# Altium footprint library MLACHC_C.PCBLIB: 52 footprints (part 2 of 4)
Each footprint in its own frame and in the unit in brackets; x right, y up, seen from the top. Pads: shape width x height; smd on the part's side, far side on the other; paste and mask are expansions set on the pad; w line width, h text height; cw(c..) or ccw(c..) is an arc to the next point about the centre after c.
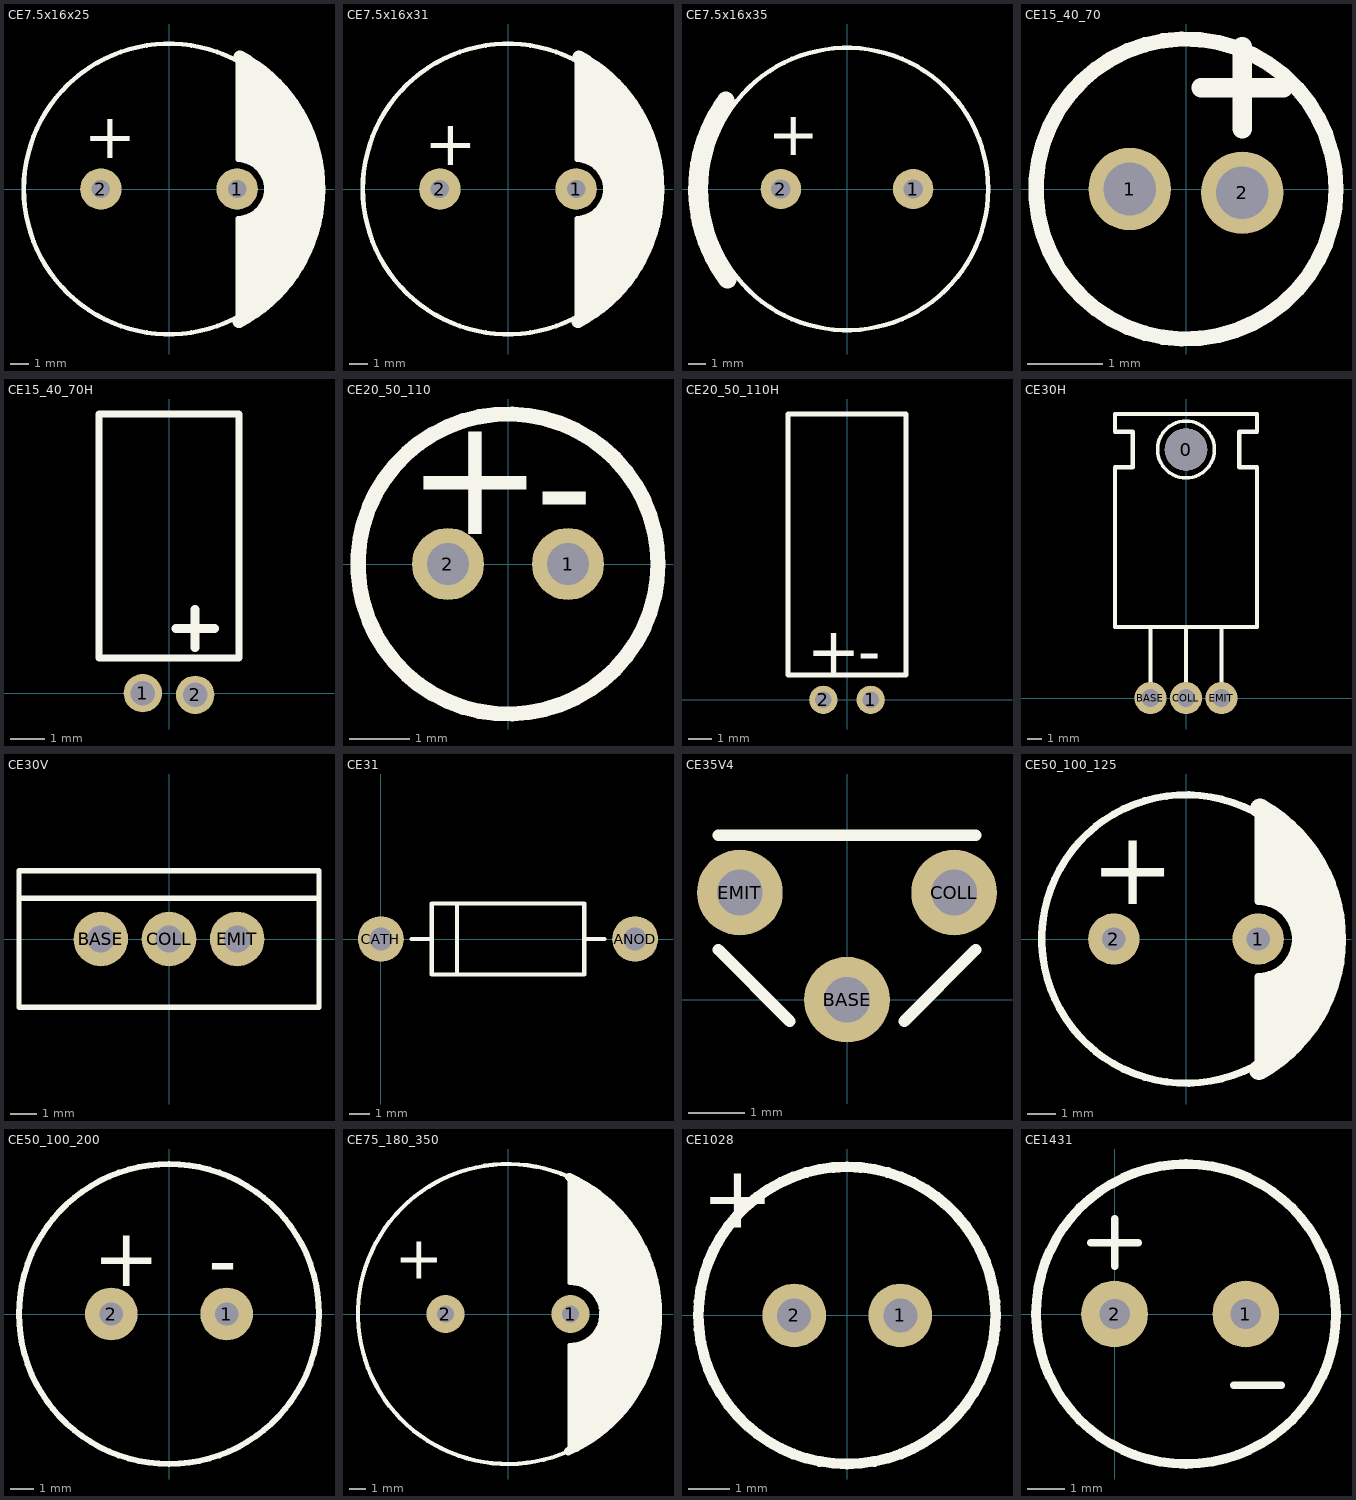
[diagram p1: the footprints below, top view; thin cyan lines are the x and y axes]

## CE7.5x16x25 [mil]
pads (2):
  round 90 hole 40: 1(147.64,0) 2(-147.64,0)
TopOverlay:
  circle w10: c0,0 r314.96
  lines w9.84: 149.61,-283.46 149.61,-62.99 ccw(c147.64,0) 149.61,62.99 149.61,275.59
  lines w19.68: 161.42,-271.65 161.42,-70.87 ; 161.42,70.87 161.42,271.65 ; 177.17,-267.72 177.17,-66.93 ; 177.17,66.93 177.17,267.72 ; 185.04,-66.93 232.28,0 185.04,66.93 ; 192.91,-255.91 192.91,-55.12 ; 192.91,55.12 192.91,255.91 ; 208.66,-244.09 208.66,-43.31 ; 208.66,43.31 208.66,244.09 ; 216.54,-62.99 216.54,47.24 ; 224.41,-228.35 224.41,228.35 ; 240.16,-212.6 240.16,216.54 ; 255.91,-188.98 255.91,196.85 ; 271.65,-173.23 271.65,173.23 ; 287.4,-141.73 287.4,145.67 ; 303.15,-90.55 303.15,106.3
  lines w27.56: 151.8,-287.63 ccw(c0,0) 153.47,286.74
  text "+" at -185.04,66.93 h100
3D body: height 984.25, standoff 0, extent -314.96,-314.34 312.48,314.34

## CE7.5x16x31 [mil]
pads (2):
  round 90 hole 40: 1(147.64,0) 2(-147.64,0)
TopOverlay:
  circle w10: c0,0 r314.96
  lines w9.84: 149.61,-283.46 149.61,-62.99 ccw(c147.64,0) 149.61,62.99 149.61,275.59
  lines w19.68: 161.42,-271.65 161.42,-70.87 ; 161.42,70.87 161.42,271.65 ; 177.17,-267.72 177.17,-66.93 ; 177.17,66.93 177.17,267.72 ; 185.04,-66.93 232.28,0 185.04,66.93 ; 192.91,-255.91 192.91,-55.12 ; 192.91,55.12 192.91,255.91 ; 208.66,-244.09 208.66,-43.31 ; 208.66,43.31 208.66,244.09 ; 216.54,-62.99 216.54,47.24 ; 224.41,-228.35 224.41,228.35 ; 240.16,-212.6 240.16,216.54 ; 255.91,-188.98 255.91,196.85 ; 271.65,-173.23 271.65,173.23 ; 287.4,-141.73 287.4,145.67 ; 303.15,-90.55 303.15,106.3
  lines w27.56: 151.8,-287.63 ccw(c0,0) 153.47,286.74
  text "+" at -181.1,51.18 h100
3D body: height 1220.47, standoff 0, extent -314.96,-314.34 312.48,314.34

## CE7.5x16x35 [mil]
pads (2):
  round 90 hole 43.31: 1(147.64,0) 2(-147.64,0)
TopOverlay:
  circle w10: c0,0 r314.96
  lines w39.37: -270.11,197.55 ccw(c0,0) -266.74,-202.08
  text "+" at -177.17,74.8 h100
3D body: height 1377.95, standoff 0, extent -314.96,-314.34 312.48,314.34

## CE15_40_70 [mm]
pads (2):
  round 1.1 hole 0.7: 1(-0.75,0) 2(0.75,-0.05)
TopOverlay:
  circle w0.203: c0,0 r2
  lines w0.254: 0.2,1.35 0.75,1.35 ; 0.75,0.8 0.75,1.35 ; 0.75,1.9 0.75,1.35 ; 1.3,1.35 0.75,1.35
3D body: height 7, standoff 0, extent -1.984,-1.996 2,1.996
3D body: height 0, standoff -2, extent -0.999,-0.25 -0.501,0.249
3D body: height 0, standoff -2, extent 0.501,-0.3 0.999,0.199

## CE15_40_70H [mm]
pads (2):
  round 1.1 hole 0.7: 1(-0.75,0) 2(0.75,-0.05)
TopOverlay:
  lines w0.2: -2,1 -2,8 2,8 2,1 -2,1
  lines w0.254: 0.2,1.85 0.75,1.85 ; 0.75,1.3 0.75,1.85 ; 0.75,2.4 0.75,1.85 ; 1.3,1.85 0.75,1.85
3D body: height 4, standoff 0, extent -1.992,1 1.992,8
3D body: height 0, standoff -2, extent -0.999,-0.25 -0.501,0.249
3D body: height 0, standoff -2, extent 0.501,-0.3 0.999,0.199
3D body: height 2.25, standoff 1.75, extent 0.501,-0.2 0.999,4.3
3D body: height 2.25, standoff -2, extent 0.501,-0.25 0.999,0.249
3D body: height 2.25, standoff -2, extent -0.999,-0.25 -0.501,0.249
3D body: height 2.25, standoff 1.75, extent -0.999,-0.2 -0.501,4.3

## CE20_50_110 [mm]
pads (2):
  round 1.2 hole 0.7: 1(1,0) 2(-1,0)
TopOverlay:
  circle w0.254: c0,0 r2.5
  text "-" at 0.45,0.35 h2
  text "+" at -1.7,0.5 h2
3D body: height 0, standoff -2, extent 0.751,-0.25 1.249,0.249
3D body: height 0, standoff -2, extent -1.249,-0.25 -0.751,0.249
3D body: height 11, standoff 0, extent -2.49,-2.49 2.49,2.5

## CE20_50_110H [mm]
pads (2):
  round 1.2 hole 0.7: 1(1,0) 2(-1,0)
TopOverlay:
  lines w0.2: -2.5,1.05 2.5,1.05 2.5,12.1 -2.5,12.1 -2.5,1.05
  text "+" at -1.7,1.1 h2
  text "-" at 0.45,1.1 h2
3D body: height 2.5, standoff 2, extent -1.249,-0.2 -0.751,2.8
3D body: height 2.5, standoff 2, extent 0.751,-0.2 1.249,4.3
3D body: height 2.5, standoff -2, extent -1.249,-0.25 -0.751,0.249
3D body: height 5, standoff 0, extent -2.49,1.05 2.49,12.05
3D body: height 2.5, standoff -2, extent 0.751,-0.25 1.249,0.249

## CE30H [mil]
pads (4):
  round 120 hole 118: 0(0,700)
  round 90 hole 50: BASE(-100,0) COLL(0,0) EMIT(100,0)
TopOverlay:
  circle w10: c0,700 r80
  lines w12: -100,0 -100,200 ; 0,0 0,200 ; 100,0 100,200 ; -200,200 200,200 200,650 150,650 150,750 200,750 200,800 -200,800 -200,750 -150,750 -150,650 -200,650 -200,200

## CE30V [mil]
pads (3):
  round 80 hole 40: BASE(-100,0) COLL(0,0) EMIT(100,0)
TopOverlay:
  lines w8: -220,60 220,60 ; -220,-100 -220,100 220,100 220,-100 -220,-100

## CE31 [mil]
pads (2):
  round 90 hole 45: ANOD(500,0) CATH(0,0)
TopOverlay:
  lines w8: 60,0 100,0 ; 150,-70 150,70 ; 400,0 440,0 ; 100,-70 100,70 400,70 400,-70 100,-70

## CE35V4 [mil]
pads (3):
  round 60 hole 32: BASE(0,0) COLL(75,75) EMIT(-75,75)
TopOverlay:
  lines w8: -90,35 -40,-15 ; -90,115 90,115 ; 40,-15 90,35
3D body: height 196.85, standoff 0, extent -11.61,-12.01 12.01,11.61
3D body: height 196.85, standoff 0, extent 63.39,62.99 87.01,86.61
3D body: height 196.85, standoff 0, extent -86.61,62.99 -62.99,86.61
3D body: height 314.96, standoff 118.11, extent -90.55,-15.75 90.55,114.17

## CE50_100_125 [mil]
pads (2):
  round 70 hole 32: 1(98.43,0) 2(-98.43,0)
TopOverlay:
  circle w10: c0,0 r196.85
  lines w9.84: 98.43,-169.29 98.43,-51.18 ccw(c98.43,0) 98.43,51.18 98.43,169.29
  lines w19.68: 110.24,-165.35 110.24,-55.12 ; 110.24,55.12 110.24,165.35 ; 125.98,-165.35 125.98,-51.18 ; 125.98,51.18 125.98,165.35 ; 141.73,-153.54 141.73,-39.37 ; 141.73,39.37 141.73,153.54 ; 153.54,-137.8 153.54,-11.81 ; 153.54,11.81 153.54,137.8 ; 157.48,0 185.04,0 ; 169.29,-110.24 169.29,122.05 ; 185.04,-86.61 185.04,86.61
  lines w27.56: 99.42,-178.96 ccw(c0,0) 101.14,178
  text "+" at -129.92,47.24 h100
3D body: height 492.13, standoff 0, extent -195.3,-196.46 196.85,196.46

## CE50_100_200 [mil]
pads (2):
  round 90 hole 40: 1(98.43,0) 2(-98.43,0)
TopOverlay:
  circle w10: c0,0 r255.91
  text "+" at -129.92,47.24 h100
  text "-" at 66.93,43.31 h100
3D body: height 787.4, standoff 0, extent -254.9,-255.91 254.9,254.9

## CE75_180_350 [mil]
pads (2):
  round 90 hole 40: 1(147.64,0) 2(-147.64,0)
TopOverlay:
  lines w9.84: 145.49,-318.72 145.49,-72.91 ccw(c147.64,0) 145.9,72.92 145.9,318.67
  lines w10: 142.44,-324.44 cw(c0,0) 144.27,323.63
  lines w19.68: 142.44,-324.44 ccw(c0,0) 144.27,323.63 ; 157.48,-307.09 157.48,-78.74 ; 157.48,78.74 157.48,307.09 ; 173.23,-299.21 173.23,-74.8 ; 173.23,74.8 173.23,299.21 ; 188.98,-291.34 188.98,-66.93 ; 188.98,66.93 188.98,291.34 ; 204.72,-279.53 204.72,-55.12 ; 204.72,55.12 204.72,279.53 ; 216.54,-267.72 216.54,-35.43 ; 216.54,35.43 216.54,267.72 ; 228.35,-259.84 228.35,263.78 ; 240.16,-251.97 240.16,251.97 ; 251.97,-236.22 251.97,240.16 ; 267.72,-224.41 267.72,224.41 ; 283.46,-208.66 283.46,196.85 ; 299.21,-185.04 299.21,177.17 ; 314.96,-149.61 314.96,157.48 ; 330.71,-125.98 330.71,122.05 ; 346.46,-59.06 346.46,66.93
  text "+" at -267.72,82.68 h100
3D body: height 1377.95, standoff 0, extent -352.93,-354.33 352.93,352.93
3D body: height 0, standoff -118.11, extent 132.01,-15.75 163.39,15.69
3D body: height 0, standoff -118.11, extent -163.26,-15.75 -131.89,15.69

## CE1028 [mil]
pads (2):
  round 60 hole 32: 1(50,0) 2(-50,0)
TopOverlay:
  circle w10: c-0.24,0 r140
  text "+" at -137.8,82.68 h60
3D body: height 590.55, standoff 0, extent -137.8,-137.52 136.71,137.52

## CE1431 [mil]
pads (2):
  round 70 hole 32: 1(137.8,0) 2(0,0)
TopOverlay:
  circle w10: c75,0 r157.48
  lines w8: -25,75 25,75 ; 0,50 0,100 ; 125,-75 175,-75